# Altium schematic symbol library RGB LED Diodes.SchLib: 3 symbols
Pins are listed as number, name and electrical type; pins without a type are passive.

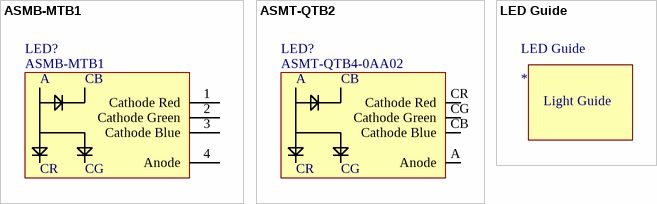
[diagram p0: symbols ASMB-MTB1 to LED Guide]

## ASMB-MTB1
designator LED?
Catalog: *; Catalog Number: *
footprint ASMB-MTB1 + GUIDE
pins: 1 Cathode Red, 2 Cathode Green, 3 Cathode Blue, 4 Anode
text: A; CB; CR; CG

## ASMT-QTB2
designator LED?, comment ASMT-QTB4-0AA02
ASMT-QTB2; Value: ASMT-QTB2; Catalog: *; Catalog number: ASMT-QTB4-0AA02; Price: *
footprint ASMT-QTB4 + Guide
pins: A Anode, CB Cathode Blue, CG Cathode Green, CR Cathode Red

## LED Guide
designator LED Guide
footprint Light Guide
text: Light Guide